# Altium footprint library WR-TBL_Pluggable Connector_2.50mm.PcbLib: 41 footprints (part 2 of 3)
Each footprint in its own frame and in the unit in brackets; x right, y up, seen from the top. Pads: shape width x height; smd on the part's side, far side on the other; paste and mask are expansions set on the pad; w line width, h text height; cw(c..) or ccw(c..) is an arc to the next point about the centre after c.
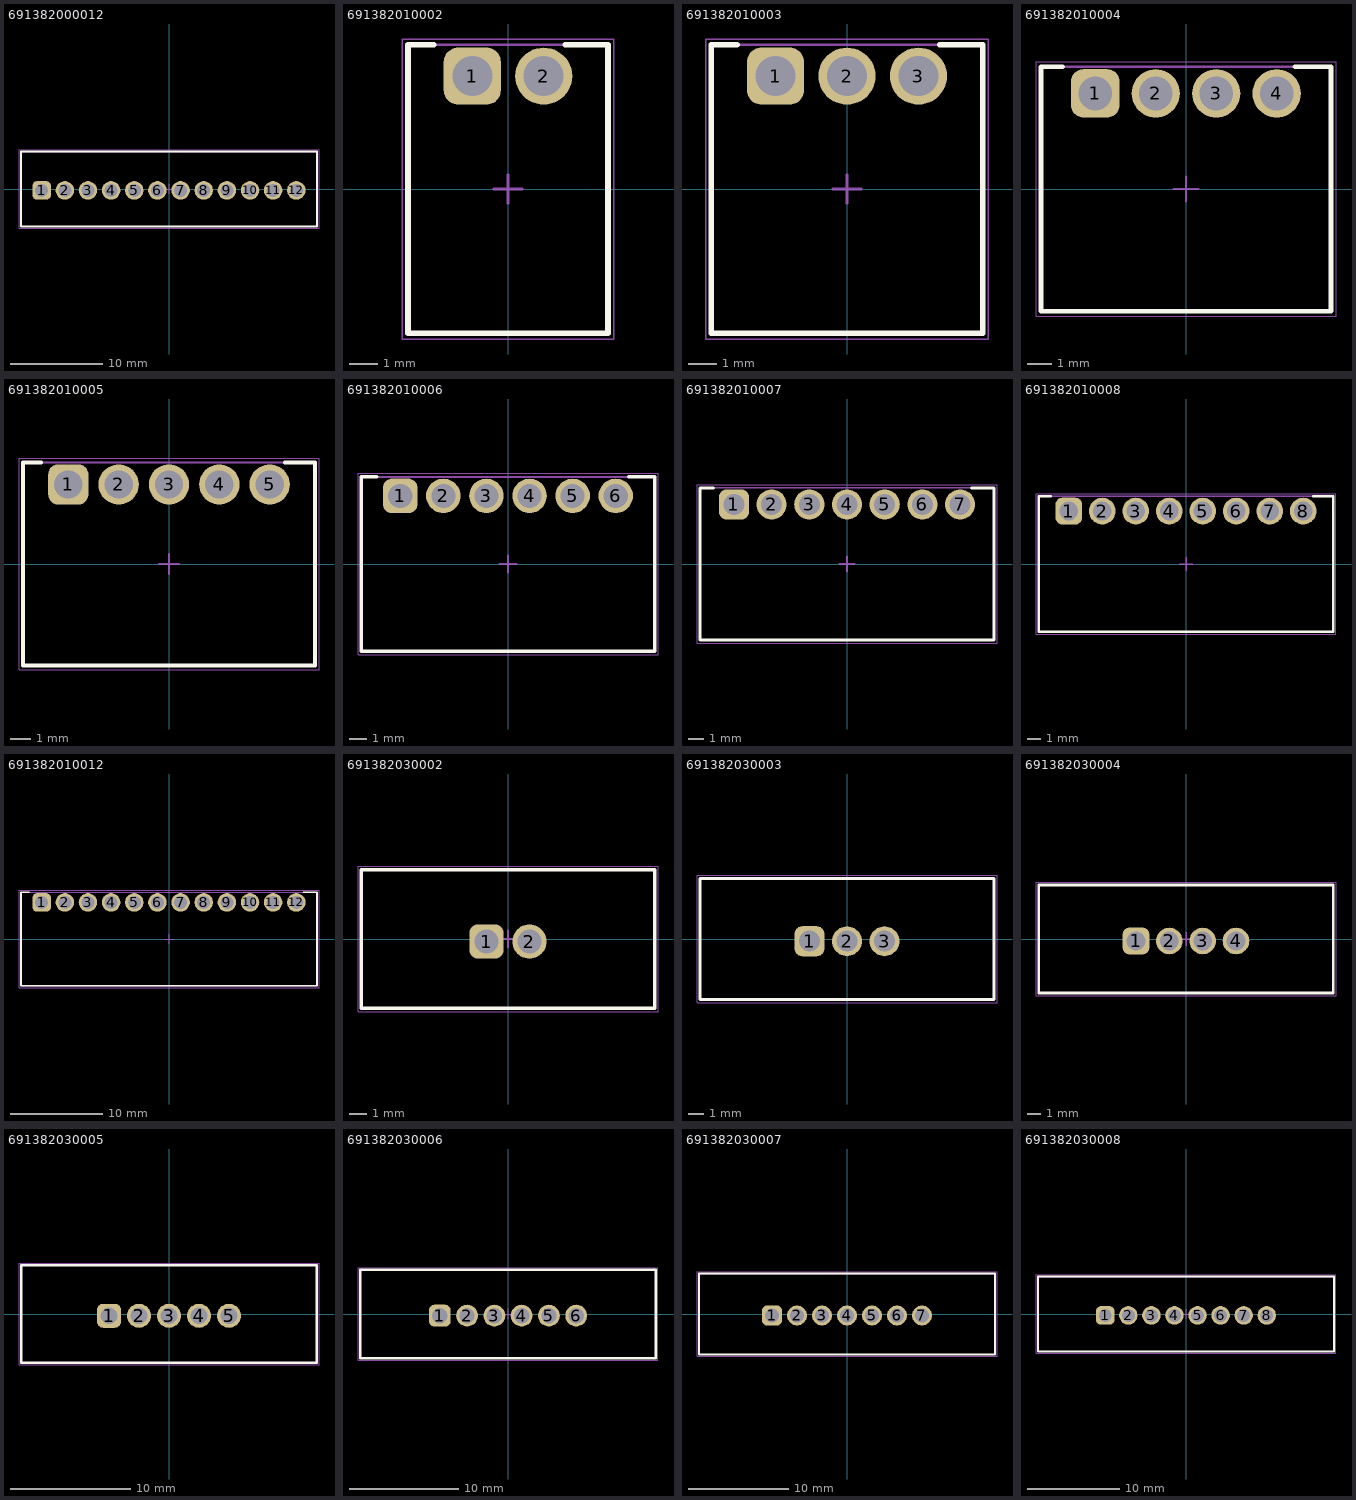
[diagram p1: the footprints below, top view; thin cyan lines are the x and y axes]

## 691382000012 [mm] "Vertical PCB Header, pitch 2.5mm, 12p"
height 10.1
pads (12):
  rrect50% 2x2 hole 1.4: 1(-13.75,-0.15)
  round 2 hole 1.4: 2(-11.25,-0.15) 3(-8.75,-0.15) 4(-6.25,-0.15) 5(-3.75,-0.15) 6(-1.25,-0.15) 7(1.25,-0.15) 8(3.75,-0.15) 9(6.25,-0.15) 10(8.75,-0.15) 11(11.25,-0.15) 12(13.75,-0.15)
Top Overlay:
  lines w0.2: -16,-4.05 16,-4.05 16,4.05 -16,4.05 -16,-4.05
Top Assembly:
  lines w0.1: -16,-4.05 -16,4.05 16,4.05 16,-4.05 -16,-4.05
Top Designator:
  text ".Designator" at -3.647,-0.357 h1
Top 3D Body:
  lines w0.1: -16,-4.05 16,-4.05 16,4.05 -16,4.05 -16,-4.05
Top Courtyard:
  lines w0.05: -16.2,-4.25 16.2,-4.25 16.2,4.25 -16.2,4.25 -16.2,-4.25
Top Component Center:
  lines w0.1: -0.5,0 0.5,0 ; 0,-0.5 0,0.5
3D body "691382000012.stp": height 10.14, standoff -3.46, extent -16,-4.05 16,4.05

## 691382010002 [mm] "Horizontal PCB Header, pitch 2.5mm, 02p"
height 8.1
pads (2):
  rrect50% 2x2 hole 1.4: 1(-1.25,3.95)
  round 2 hole 1.4: 2(1.25,3.95)
Top Overlay:
  lines w0.2: -2.6,5.05 -3.5,5.05 -3.5,-5.05 3.5,-5.05 3.5,5.05 2,5.05
Top Assembly:
  lines w0.1: -3.5,-5.05 3.5,-5.05 3.5,5.05 -3.5,5.05 -3.5,-5.05
Top Designator:
  text ".Designator" at -3.647,-0.357 h1
Top 3D Body:
  lines w0.1: -3.5,-5.05 -3.5,5.05 3.5,5.05 3.5,-5.05 -3.5,-5.05
Top Courtyard:
  lines w0.05: -3.7,-5.25 3.7,-5.25 3.7,5.25 -3.7,5.25 -3.7,-5.25
Top Component Center:
  lines w0.1: -0.5,0 0.5,0 ; 0,-0.5 0,0.5
3D body "691382010002.stp": height 8.15, standoff -3.45, extent -3.5,-5.05 3.5,5.05

## 691382010003 [mm] "Horizontal PCB Header, pitch 2.5mm, 03p"
height 8.1
pads (3):
  rrect50% 2x2 hole 1.4: 1(-2.5,3.95)
  round 2 hole 1.4: 2(0,3.95) 3(2.5,3.95)
Top Overlay:
  lines w0.2: -3.85,5.05 -4.75,5.05 -4.75,-5.05 4.75,-5.05 4.75,5.05 3.25,5.05
Top Assembly:
  lines w0.1: -4.75,-5.05 -4.75,5.05 4.75,5.05 4.75,-5.05 -4.75,-5.05
Top Designator:
  text ".Designator" at -3.647,-0.357 h1
Top 3D Body:
  lines w0.1: -4.75,-5.05 4.75,-5.05 4.75,5.05 -4.75,5.05 -4.75,-5.05
Top Courtyard:
  lines w0.05: -4.95,-5.25 -4.95,5.25 4.95,5.25 4.95,-5.25 -4.95,-5.25
Top Component Center:
  lines w0.1: -0.5,0 0.5,0 ; 0,-0.5 0,0.5
3D body "691382010003.stp": height 8.15, standoff -3.45, extent -4.75,-5.05 4.75,5.05

## 691382010004 [mm] "Horizontal PCB Header, pitch 2.5mm, 04p"
height 8.1
pads (4):
  rrect50% 2x2 hole 1.4: 1(-3.75,3.95)
  round 2 hole 1.4: 2(-1.25,3.95) 3(1.25,3.95) 4(3.75,3.95)
Top Overlay:
  lines w0.2: -5.1,5.05 -6,5.05 -6,-5.05 6,-5.05 6,5.05 4.5,5.05
Top Assembly:
  lines w0.1: -6,-5.05 6,-5.05 6,5.05 -6,5.05 -6,-5.05
Top Designator:
  text ".Designator" at -3.647,-0.357 h1
Top 3D Body:
  lines w0.1: -6,-5.05 -6,5.05 6,5.05 6,-5.05 -6,-5.05
Top Courtyard:
  lines w0.05: -6.2,-5.25 6.2,-5.25 6.2,5.25 -6.2,5.25 -6.2,-5.25
Top Component Center:
  lines w0.1: -0.5,0 0.5,0 ; 0,-0.5 0,0.5
3D body "691382010004.stp": height 8.15, standoff -3.45, extent -6,-5.05 6,5.05

## 691382010005 [mm] "Horizontal PCB Header, pitch 2.5mm, 05p"
height 8.1
pads (5):
  rrect50% 2x2 hole 1.4: 1(-5,3.95)
  round 2 hole 1.4: 2(-2.5,3.95) 3(0,3.95) 4(2.5,3.95) 5(5,3.95)
Top Overlay:
  lines w0.2: -6.35,5.05 -7.25,5.05 -7.25,-5.05 7.25,-5.05 7.25,5.05 5.75,5.05
Top Assembly:
  lines w0.1: -7.25,-5.05 -7.25,5.05 7.25,5.05 7.25,-5.05 -7.25,-5.05
Top Designator:
  text ".Designator" at -3.647,-0.357 h1
Top 3D Body:
  lines w0.1: -7.25,-5.05 7.25,-5.05 7.25,5.05 -7.25,5.05 -7.25,-5.05
Top Courtyard:
  lines w0.05: -7.45,-5.25 -7.45,5.25 7.45,5.25 7.45,-5.25 -7.45,-5.25
Top Component Center:
  lines w0.1: -0.5,0 0.5,0 ; 0,-0.5 0,0.5
3D body "691382010005.stp": height 8.15, standoff -3.45, extent -7.25,-5.05 7.25,5.05

## 691382010006 [mm] "Horizontal PCB Header, pitch 2.5mm, 06p"
height 8.1
pads (6):
  rrect50% 2x2 hole 1.4: 1(-6.25,3.95)
  round 2 hole 1.4: 2(-3.75,3.95) 3(-1.25,3.95) 4(1.25,3.95) 5(3.75,3.95) 6(6.25,3.95)
Top Overlay:
  lines w0.2: -7.6,5.05 -8.5,5.05 -8.5,-5.05 8.5,-5.05 8.5,5.05 7,5.05
Top Assembly:
  lines w0.1: -8.5,-5.05 8.5,-5.05 8.5,5.05 -8.5,5.05 -8.5,-5.05
Top Designator:
  text ".Designator" at -3.647,-0.357 h1
Top 3D Body:
  lines w0.1: -8.5,-5.05 -8.5,5.05 8.5,5.05 8.5,-5.05 -8.5,-5.05
Top Courtyard:
  lines w0.05: -8.7,-5.25 8.7,-5.25 8.7,5.25 -8.7,5.25 -8.7,-5.25
Top Component Center:
  lines w0.1: -0.5,0 0.5,0 ; 0,-0.5 0,0.5
3D body "691382010006.stp": height 8.15, standoff -3.45, extent -8.5,-5.05 8.5,5.05

## 691382010007 [mm] "Horizontal PCB Header, pitch 2.5mm, 07p"
height 8.1
pads (7):
  rrect50% 2x2 hole 1.4: 1(-7.5,3.95)
  round 2 hole 1.4: 2(-5,3.95) 3(-2.5,3.95) 4(0,3.95) 5(2.5,3.95) 6(5,3.95) 7(7.5,3.95)
Top Overlay:
  lines w0.2: -8.85,5.05 -9.75,5.05 -9.75,-5.05 9.75,-5.05 9.75,5.05 8.25,5.05
Top Assembly:
  lines w0.1: -9.75,-5.05 -9.75,5.05 9.75,5.05 9.75,-5.05 -9.75,-5.05
Top Designator:
  text ".Designator" at -3.647,-0.357 h1
Top 3D Body:
  lines w0.1: -9.75,-5.05 9.75,-5.05 9.75,5.05 -9.75,5.05 -9.75,-5.05
Top Courtyard:
  lines w0.05: -9.95,-5.25 -9.95,5.25 9.95,5.25 9.95,-5.25 -9.95,-5.25
Top Component Center:
  lines w0.1: -0.5,0 0.5,0 ; 0,-0.5 0,0.5
3D body "691382010007.stp": height 8.15, standoff -3.45, extent -9.75,-5.05 9.75,5.05

## 691382010008 [mm] "Horizontal PCB Header, pitch 2.5mm, 08p"
height 8.1
pads (8):
  rrect50% 2x2 hole 1.4: 1(-8.75,3.95)
  round 2 hole 1.4: 2(-6.25,3.95) 3(-3.75,3.95) 4(-1.25,3.95) 5(1.25,3.95) 6(3.75,3.95) 7(6.25,3.95) 8(8.75,3.95)
Top Overlay:
  lines w0.2: -10.1,5.05 -11,5.05 -11,-5.05 11,-5.05 11,5.05 9.5,5.05
Top Assembly:
  lines w0.1: -11,-5.05 11,-5.05 11,5.05 -11,5.05 -11,-5.05
Top Designator:
  text ".Designator" at -3.647,-0.357 h1
Top 3D Body:
  lines w0.1: -11,-5.05 -11,5.05 11,5.05 11,-5.05 -11,-5.05
Top Courtyard:
  lines w0.05: -11.2,-5.25 11.2,-5.25 11.2,5.25 -11.2,5.25 -11.2,-5.25
Top Component Center:
  lines w0.1: -0.5,0 0.5,0 ; 0,-0.5 0,0.5
3D body "691382010008.stp": height 8.15, standoff -3.45, extent -11,-5.05 11,5.05

## 691382010012 [mm] "Horizontal PCB Header, pitch 2.5mm, 12p"
height 8.1
pads (12):
  rrect50% 2x2 hole 1.4: 1(-13.75,3.95)
  round 2 hole 1.4: 2(-11.25,3.95) 3(-8.75,3.95) 4(-6.25,3.95) 5(-3.75,3.95) 6(-1.25,3.95) 7(1.25,3.95) 8(3.75,3.95) 9(6.25,3.95) 10(8.75,3.95) 11(11.25,3.95) 12(13.75,3.95)
Top Overlay:
  lines w0.2: -15.1,5.05 -16,5.05 -16,-5.05 16,-5.05 16,5.05 14.5,5.05
Top Assembly:
  lines w0.1: -16,-5.05 16,-5.05 16,5.05 -16,5.05 -16,-5.05
Top Designator:
  text ".Designator" at -3.647,-0.357 h1
Top 3D Body:
  lines w0.1: -16,-5.05 -16,5.05 16,5.05 16,-5.05 -16,-5.05
Top Courtyard:
  lines w0.05: -16.2,-5.25 16.2,-5.25 16.2,5.25 -16.2,5.25 -16.2,-5.25
Top Component Center:
  lines w0.1: -0.5,0 0.5,0 ; 0,-0.5 0,0.5
3D body "691382010012.stp": height 8.15, standoff -3.45, extent -16,-5.05 16,5.05

## 691382030002 [mm] "Vertical PCB Header with Flanges, pitch 2.5mm, 02p"
height 10.1
pads (2):
  rrect50% 2x2 hole 1.4: 1(-1.25,-0.15)
  round 2 hole 1.4: 2(1.25,-0.15)
Top Overlay:
  lines w0.2: -8.55,-4.05 8.55,-4.05 8.55,4.05 -8.55,4.05 -8.55,-4.05
Top Assembly:
  lines w0.1: -8.55,-4.05 -8.55,4.05 8.55,4.05 8.55,-4.05 -8.55,-4.05
Top Designator:
  text ".Designator" at -3.647,-0.357 h1
Top 3D Body:
  lines w0.1: -8.55,-4.05 8.55,-4.05 8.55,4.05 -8.55,4.05 -8.55,-4.05
Top Courtyard:
  lines w0.05: -8.75,-4.25 -8.75,4.25 8.75,4.25 8.75,-4.25 -8.75,-4.25
Top Component Center:
  lines w0.1: -0.5,0 0.5,0 ; 0,-0.5 0,0.5
3D body "691382030002.stp": height 10.2, standoff -3.4, extent -8.55,-4.05 8.55,4.05

## 691382030003 [mm] "Vertical PCB Header with Flanges, pitch 2.5mm, 03p"
height 10.1
pads (3):
  rrect50% 2x2 hole 1.4: 1(-2.5,-0.15)
  round 2 hole 1.4: 2(0,-0.15) 3(2.5,-0.15)
Top Overlay:
  lines w0.2: -9.8,-4.05 9.8,-4.05 9.8,4.05 -9.8,4.05 -9.8,-4.05
Top Assembly:
  lines w0.1: -9.8,-4.05 -9.8,4.05 9.8,4.05 9.8,-4.05 -9.8,-4.05
Top Designator:
  text ".Designator" at -3.647,-0.357 h1
Top 3D Body:
  lines w0.1: -9.8,-4.05 9.8,-4.05 9.8,4.05 -9.8,4.05 -9.8,-4.05
Top Courtyard:
  lines w0.05: -10,-4.25 -10,4.25 10,4.25 10,-4.25 -10,-4.25
Top Component Center:
  lines w0.1: -0.5,0 0.5,0 ; 0,-0.5 0,0.5
3D body "691382030003.stp": height 10.2, standoff -3.4, extent -9.8,-4.05 9.8,4.05

## 691382030004 [mm] "Vertical PCB Header with Flanges, pitch 2.5mm, 04p"
height 10.1
pads (4):
  rrect50% 2x2 hole 1.4: 1(-3.75,-0.15)
  round 2 hole 1.4: 2(-1.25,-0.15) 3(1.25,-0.15) 4(3.75,-0.15)
Top Overlay:
  lines w0.2: -11.05,-4.05 11.05,-4.05 11.05,4.05 -11.05,4.05 -11.05,-4.05
Top Assembly:
  lines w0.1: -11.05,-4.05 -11.05,4.05 11.05,4.05 11.05,-4.05 -11.05,-4.05
Top Designator:
  text ".Designator" at -3.647,-0.357 h1
Top 3D Body:
  lines w0.1: -11.05,-4.05 11.05,-4.05 11.05,4.05 -11.05,4.05 -11.05,-4.05
Top Courtyard:
  lines w0.05: -11.25,-4.25 -11.25,4.25 11.25,4.25 11.25,-4.25 -11.25,-4.25
Top Component Center:
  lines w0.1: -0.5,0 0.5,0 ; 0,-0.5 0,0.5
3D body "691382030004.stp": height 10.2, standoff -3.4, extent -11.05,-4.05 11.05,4.05

## 691382030005 [mm] "Vertical PCB Header with Flanges, pitch 2.5mm, 05p"
height 10.1
pads (5):
  rrect50% 2x2 hole 1.4: 1(-5,-0.15)
  round 2 hole 1.4: 2(-2.5,-0.15) 3(0,-0.15) 4(2.5,-0.15) 5(5,-0.15)
Top Overlay:
  lines w0.2: -12.3,-4.05 12.3,-4.05 12.3,4.05 -12.3,4.05 -12.3,-4.05
Top Assembly:
  lines w0.1: -12.3,-4.05 -12.3,4.05 12.3,4.05 12.3,-4.05 -12.3,-4.05
Top Designator:
  text ".Designator" at -3.647,-0.357 h1
Top 3D Body:
  lines w0.1: -12.3,-4.05 12.3,-4.05 12.3,4.05 -12.3,4.05 -12.3,-4.05
Top Courtyard:
  lines w0.05: -12.5,-4.25 -12.5,4.25 12.5,4.25 12.5,-4.25 -12.5,-4.25
Top Component Center:
  lines w0.1: -0.5,0 0.5,0 ; 0,-0.5 0,0.5
3D body "691382030005.stp": height 10.2, standoff -3.4, extent -12.3,-4.05 12.3,4.05

## 691382030006 [mm] "Vertical PCB Header with Flanges, pitch 2.5mm, 06p"
height 10.1
pads (6):
  rrect50% 2x2 hole 1.4: 1(-6.25,-0.15)
  round 2 hole 1.4: 2(-3.75,-0.15) 3(-1.25,-0.15) 4(1.25,-0.15) 5(3.75,-0.15) 6(6.25,-0.15)
Top Overlay:
  lines w0.2: -13.55,-4.05 -13.55,4.05 13.55,4.05 13.55,-4.05 -13.55,-4.05
Top Assembly:
  lines w0.1: -13.55,-4.05 13.55,-4.05 13.55,4.05 -13.55,4.05 -13.55,-4.05
Top Designator:
  text ".Designator" at -3.647,-0.357 h1
Top 3D Body:
  lines w0.1: -13.55,-4.05 -13.55,4.05 13.55,4.05 13.55,-4.05 -13.55,-4.05
Top Courtyard:
  lines w0.05: -13.75,-4.25 13.75,-4.25 13.75,4.25 -13.75,4.25 -13.75,-4.25
Top Component Center:
  lines w0.1: -0.5,0 0.5,0 ; 0,-0.5 0,0.5
3D body "691382030006.stp": height 10.2, standoff -3.4, extent -13.55,-4.05 13.55,4.05

## 691382030007 [mm] "Vertical PCB Header with Flanges, pitch 2.5mm, 07p"
height 10.1
pads (7):
  rrect50% 2x2 hole 1.4: 1(-7.5,-0.15)
  round 2 hole 1.4: 2(-5,-0.15) 3(-2.5,-0.15) 4(0,-0.15) 5(2.5,-0.15) 6(5,-0.15) 7(7.5,-0.15)
Top Overlay:
  lines w0.2: -14.8,-4.05 -14.8,4.05 14.8,4.05 14.8,-4.05 -14.8,-4.05
Top Assembly:
  lines w0.1: -14.8,-4.05 14.8,-4.05 14.8,4.05 -14.8,4.05 -14.8,-4.05
Top Designator:
  text ".Designator" at -3.647,-0.357 h1
Top 3D Body:
  lines w0.1: -14.8,-4.05 -14.8,4.05 14.8,4.05 14.8,-4.05 -14.8,-4.05
Top Courtyard:
  lines w0.05: -15,-4.25 15,-4.25 15,4.25 -15,4.25 -15,-4.25
Top Component Center:
  lines w0.1: -0.5,0 0.5,0 ; 0,-0.5 0,0.5
3D body "691382030007.stp": height 10.2, standoff -3.4, extent -14.8,-4.05 14.8,4.05

## 691382030008 [mm] "Vertical PCB Header with Flanges, pitch 2.5mm, 08p"
height 10.1
pads (8):
  rrect50% 2x2 hole 1.4: 1(-8.75,-0.15)
  round 2 hole 1.4: 2(-6.25,-0.15) 3(-3.75,-0.15) 4(-1.25,-0.15) 5(1.25,-0.15) 6(3.75,-0.15) 7(6.25,-0.15) 8(8.75,-0.15)
Top Overlay:
  lines w0.2: -16.05,-4.05 -16.05,4.05 16.05,4.05 16.05,-4.05 -16.05,-4.05
Top Assembly:
  lines w0.1: -16.05,-4.05 16.05,-4.05 16.05,4.05 -16.05,4.05 -16.05,-4.05
Top Designator:
  text ".Designator" at -3.647,-0.357 h1
Top 3D Body:
  lines w0.1: -16.05,-4.05 -16.05,4.05 16.05,4.05 16.05,-4.05 -16.05,-4.05
Top Courtyard:
  lines w0.05: -16.25,-4.25 16.25,-4.25 16.25,4.25 -16.25,4.25 -16.25,-4.25
Top Component Center:
  lines w0.1: -0.5,0 0.5,0 ; 0,-0.5 0,0.5
3D body "691382030008.stp": height 10.2, standoff -3.4, extent -16.05,-4.05 16.05,4.05